# EAGLE library part PHB_1MM27_2X05_* (library _hhn_con_pinhead_box_1mm27)
Pin Header Box-Type, 1.27mm/0.5"/50mil Pitch, 2x05 Circuits Note: see library description for an important note about THT-version
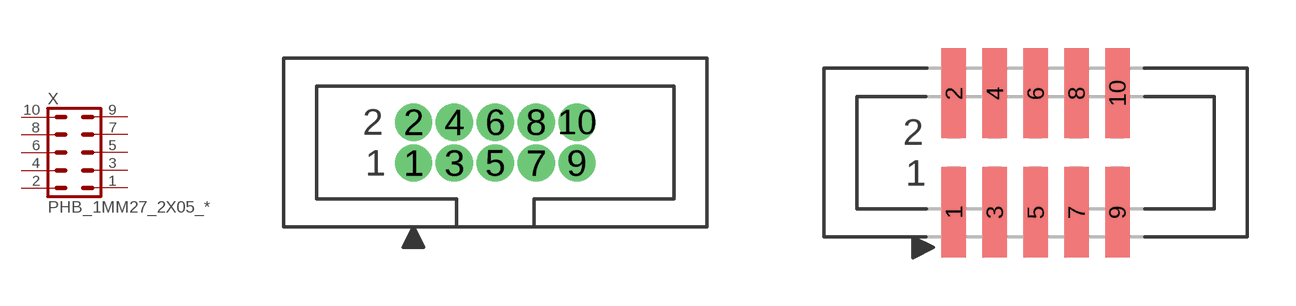
[diagram p0: symbol with the pads of PHB_1MM27_2X05_SNT; footprints PHB_1MM27_2X05_SNT, PHB_1MM27_2X05_SNS]

Designator prefix X

## PHB_1MM27_2X05_SNT  [PHB_1MM27_2X05_SNT]
1  1  pas
2  2  pas
3  3  pas
4  4  pas
5  5  pas
6  6  pas
7  7  pas
8  8  pas
9  9  pas
10  10  pas

## PHB_1MM27_2X05_SNS  [PHB_1MM27_2X05_SNS]
Pads as for PHB_1MM27_2X05_SNT

## Footprint PHB_1MM27_2X05_SNT (pad centres in mm)
Pin Header Box-Type, 1.27mm Pitch, 2x05 circuits, Straight, No Locking, THT Important Note regarding to THT-versions: see description of library
drill 0.65 round: 1 -2.54,-0.635; 2 -2.54,0.635; 3 -1.27,-0.635; 4 -1.27,0.635; 5 0,-0.635; 6 0,0.635; 7 1.27,-0.635; 8 1.27,0.635; 9 2.54,-0.635; 10 2.54,0.635

## Footprint PHB_1MM27_2X05_SNS (pad centres in mm)
Pin Header Box-Type, 1.27mm Pitch, 2x05 circuits, Straight, No Locking, SMT
smd 0.76 x 2.8: 1 -2.54,-1.85; 2 -2.54,1.85; 3 -1.27,-1.85; 4 -1.27,1.85; 5 0,-1.85; 6 0,1.85; 7 1.27,-1.85; 8 1.27,1.85; 9 2.54,-1.85; 10 2.54,1.85